# Altium footprint library b2qfn_41_1600x1000x410.PcbLib: 1 footprints
Each footprint in its own frame and in the unit in brackets; x right, y up, seen from the top. Pads: shape width x height; smd on the part's side, far side on the other; paste and mask are expansions set on the pad; w line width, h text height; cw(c..) or ccw(c..) is an arc to the next point about the centre after c.
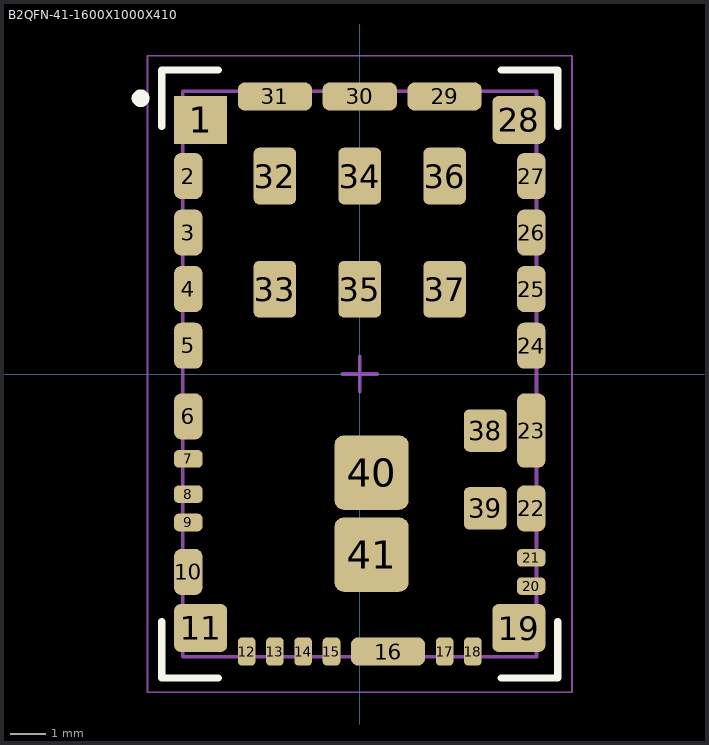
[diagram p0: the footprint, top view; thin cyan lines are the x and y axes]

## B2QFN-41-1600X1000X410 [mm] "B2QFN, 41-Leads, Body 16,00x10,00mm, IPC Medium Density"
height 4.1
pads (41):
  rect 1.5x1.35 smd: 1(-4.5,7.185)
  rrect50% 0.8x1.3 smd: 2(-4.85,5.6) 3(-4.85,4) 4(-4.85,2.4) 5(-4.85,0.8) 6(-4.85,-1.2) 10(-4.85,-5.6) 22(4.85,-3.8) 24(4.85,0.8) 25(4.85,2.4) 26(4.85,4) 27(4.85,5.6)
  rrect50% 0.8x0.5 smd: 7(-4.85,-2.4) 8(-4.85,-3.4) 9(-4.85,-4.2) 20(4.85,-6) 21(4.85,-5.2)
  rrect25% 1.5x1.35 smd: 11(-4.5,-7.185) 19(4.5,-7.185) 28(4.5,7.185)
  rrect50% 0.5x0.8 smd: 12(-3.2,-7.85) 13(-2.4,-7.85) 14(-1.6,-7.85) 15(-0.8,-7.85) 17(2.4,-7.85) 18(3.2,-7.85)
  rrect50% 2.1x0.8 smd: 16(0.8,-7.85) 29(2.4,7.85) 30(0,7.85) 31(-2.4,7.85)
  rrect50% 0.8x2.1 smd: 23(4.85,-1.6)
  rrect25% 1.2x1.6 smd: 32(-2.4,5.6) 33(-2.4,2.4) 34(0,5.6) 35(0,2.4) 36(2.4,5.6) 37(2.4,2.4)
  rrect25% 1.2x1.2 smd: 38(3.55,-1.6) 39(3.55,-3.8)
  rrect25% 2.1x2.1 smd: 40(0.335,-2.79) 41(0.335,-5.11)
Top Overlay:
  circle w0.25: c-6.2,7.8 r0.125
  lines w0.2: -5.6,-7 -5.6,-8.6 -4,-8.6 ; -5.6,7 -5.6,8.6 -4,8.6 ; 4,-8.6 5.6,-8.6 5.6,-7 ; 4,8.6 5.6,8.6 5.6,7
Top Comment:
  text ".Comment" at 1,9.5 h1.2
Top Designator:
  text ".Designator" at -0.5,9.5 h1.2
Top Component Outline:
  lines w0.1: -5,-8 5,-8 5,8 -5,8 -5,-8
Top Courtyard (Mech15):
  lines w0.05: -6,-9 -6,9 0,9 6,9 6,-9 -6,-9
  lines w0.1: -0.5,0 0.5,0 ; 0,-0.5 0,0.5
3D body "B2QFN-41.STEP": height 4.1, standoff 0, extent -5,-8 5,8